# Altium footprint library PcbLib.PcbLib: 8 footprints
Each footprint in its own frame and in the unit in brackets; x right, y up, seen from the top. Pads: shape width x height; smd on the part's side, far side on the other; paste and mask are expansions set on the pad; w line width, h text height; cw(c..) or ccw(c..) is an arc to the next point about the centre after c.
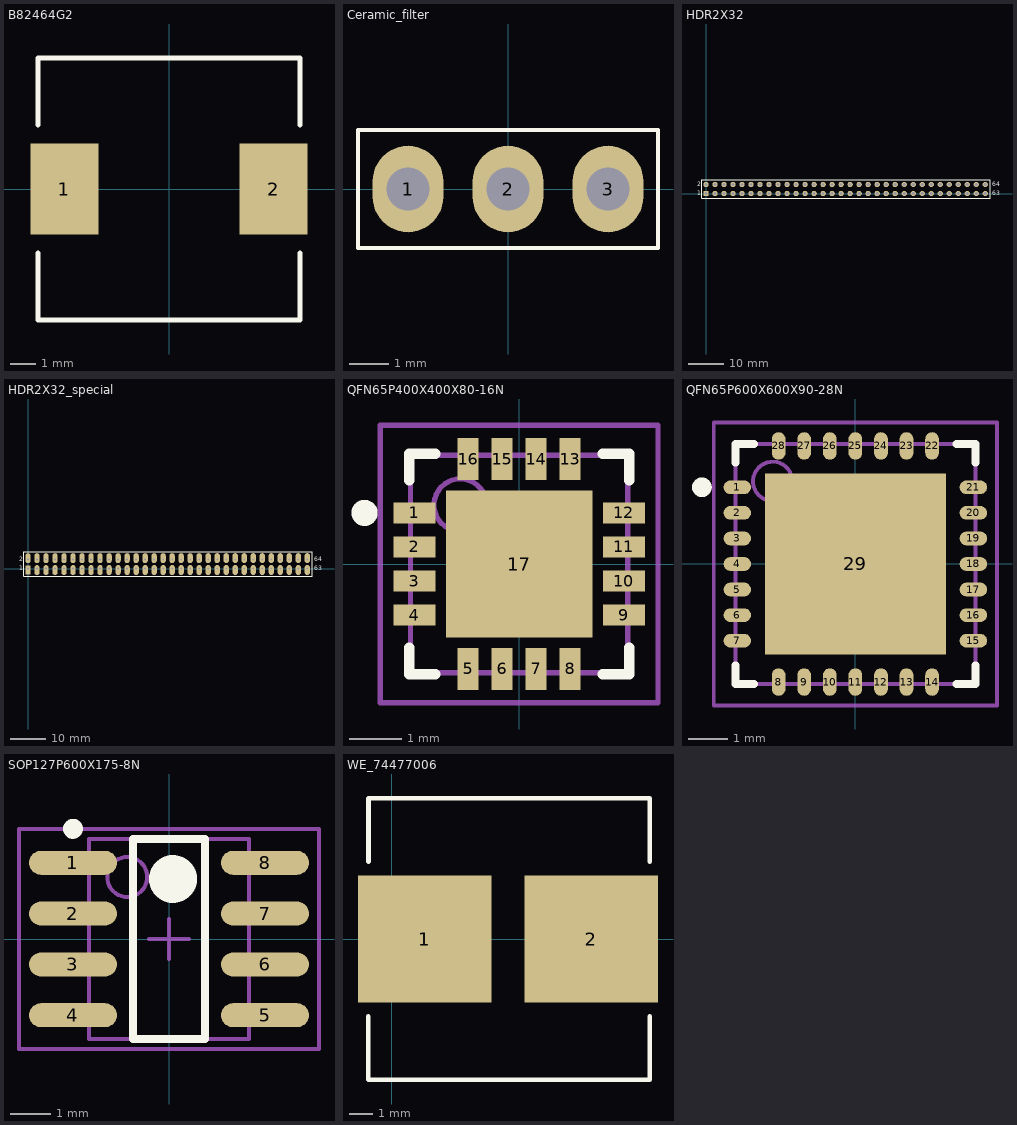
[diagram p0: the footprints below, top view; thin cyan lines are the x and y axes]

## B82464G2 [mm]
height 3
pads (2):
  rect 2.7x3.6 smd: 1(-4.15,0) 2(4.15,0)
Top Overlay:
  lines w0.2: -5.2,-2.547 -5.2,-5.2 5.2,-5.2 5.2,-2.547 ; -5.2,2.547 -5.2,5.2 5.2,5.2 5.2,2.547
3D body: height 4.8, standoff 0, extent -5.2,-5.327 5.2,5.073

## Ceramic_filter [mm]
pads (3):
  oval 1.8x2.2 hole 1.1: 1(-2.54,0) 2(0,0) 3(2.54,0)
Top Overlay:
  lines w0.1: -3.81,-1.5 -3.81,1.5 3.81,1.5 3.81,-1.5 -3.81,-1.5

## HDR2X32 [mm]
pads (64):
  rect 1.5x1.5 hole 0.9: 1(0,0)
  round 1.5 hole 0.9: 2(0,2.54) 3(2.54,0) 4(2.54,2.54) 5(5.08,0) 6(5.08,2.54) 7(7.62,0) 8(7.62,2.54) 9(10.16,0) 10(10.16,2.54) 11(12.7,0) 12(12.7,2.54) 13(15.24,0) 14(15.24,2.54) 15(17.78,0) 16(17.78,2.54) 17(20.32,0) 18(20.32,2.54) 19(22.86,0) 20(22.86,2.54) 21(25.4,0) 22(25.4,2.54) 23(27.94,0) 24(27.94,2.54) 25(30.48,0) 26(30.48,2.54) 27(33.02,0) 28(33.02,2.54) 29(35.56,0) 30(35.56,2.54) 31(38.1,0) 32(38.1,2.54) 33(40.64,0) 34(40.64,2.54) 35(43.18,0) 36(43.18,2.54) 37(45.72,0) 38(45.72,2.54) 39(48.26,0) 40(48.26,2.54) 41(50.8,0) 42(50.8,2.54) 43(53.34,0) 44(53.34,2.54) 45(55.88,0) 46(55.88,2.54) 47(58.42,0) 48(58.42,2.54) 49(60.96,0) 50(60.96,2.54) 51(63.5,0) 52(63.5,2.54) 53(66.04,0) 54(66.04,2.54) 55(68.58,0) 56(68.58,2.54) 57(71.12,0) 58(71.12,2.54) 59(73.66,0) 60(73.66,2.54) 61(76.2,0) 62(76.2,2.54) 63(78.74,0) 64(78.74,2.54)
Top Overlay:
  lines w0.2: -1.27,-1.27 80.14,-1.27 80.14,0 80.14,2.54 80.14,3.81 -1.27,3.81 -1.27,-1.27
  text "64" at 80.772,2.032 h1.27
  text "63" at 80.772,-0.508 h1.27
  text "1" at -2.54,-0.508 h1.27
  text "2" at -2.54,2.032 h1.27

## HDR2X32_special [mm]
height 2
pads (64):
  rect 1.5x2.5 hole 0.5 copper offset 0,-0.4: 1(0,0)
  oval 1.5x2.8 hole 0.5 copper offset 0,0.4: 2(0,2.54) 4(2.54,2.54) 6(5.08,2.54) 8(7.62,2.54) 10(10.16,2.54) 12(12.7,2.54) 14(15.24,2.54) 16(17.78,2.54) 18(20.32,2.54) 20(22.86,2.54) 22(25.4,2.54) 24(27.94,2.54) 26(30.48,2.54) 28(33.02,2.54) 30(35.56,2.54) 32(38.1,2.54) 34(40.64,2.54) 36(43.18,2.54) 38(45.72,2.54) 40(48.26,2.54) 42(50.8,2.54) 44(53.34,2.54) 46(55.88,2.54) 48(58.42,2.54) 50(60.96,2.54) 52(63.5,2.54) 54(66.04,2.54) 56(68.58,2.54) 58(71.12,2.54) 60(73.66,2.54) 62(76.2,2.54) 64(78.74,2.54)
  oval 1.5x2.8 hole 0.5 copper offset 0,-0.4: 3(2.54,0) 5(5.08,0) 7(7.62,0) 9(10.16,0) 11(12.7,0) 13(15.24,0) 15(17.78,0) 17(20.32,0) 19(22.86,0) 21(25.4,0) 23(27.94,0) 25(30.48,0) 27(33.02,0) 29(35.56,0) 31(38.1,0) 33(40.64,0) 35(43.18,0) 37(45.72,0) 39(48.26,0) 41(50.8,0) 43(53.34,0) 45(55.88,0) 47(58.42,0) 49(60.96,0) 51(63.5,0) 53(66.04,0) 55(68.58,0) 57(71.12,0) 59(73.66,0) 61(76.2,0) 63(78.74,0)
Top Overlay:
  lines w0.2: -1.27,-2.1 80.14,-2.1 80.14,4.7 -1.27,4.7 -1.27,-2.1
  text "64" at 80.772,2.032 h1.27
  text "63" at 80.772,-0.508 h1.27
  text "1" at -2.54,-0.508 h1.27
  text "2" at -2.54,2.032 h1.27

## QFN65P400X400X80-16N [mm] "QFN, 16-Leads, Body 4,2x4,2mm (max), Pitch 0,65mm, IPC Medium Density"
height 0.8
pads (17):
  rect 0.8x0.4 smd: 1(-2,0.975) 2(-2,0.325) 3(-2,-0.325) 4(-2,-0.975) 9(2,-0.975) 10(2,-0.325) 11(2,0.325) 12(2,0.975)
  rect 0.4x0.8 smd: 5(-0.975,-2) 6(-0.325,-2) 7(0.325,-2) 8(0.975,-2) 13(0.975,2) 14(0.325,2) 15(-0.325,2) 16(-0.975,2)
  rect 2.8x2.8 smd: 17(0,0)
Top Overlay:
  circle w0.25: c-2.95,0.975 r0.125
  lines w0.2: -2.1,-1.6 -2.1,-2.1 -1.6,-2.1 ; -2.1,1.6 -2.1,2.1 -1.6,2.1 ; 1.6,-2.1 2.1,-2.1 2.1,-1.6 ; 1.6,2.1 2.1,2.1 2.1,1.6
Mechanical 13:
  circle w0.1: c-1.125,1.125 r0.5
  lines w0.1: -2.075,-2.075 -2.075,2.075 2.075,2.075 2.075,-2.075 -2.075,-2.075
Mechanical 15:
  lines w0.1: -0.5,0 0.5,0 ; 0,-0.5 0,0.5 ; -2.65,-2.65 -2.65,2.65 2.65,2.65 2.65,-2.65 -2.65,-2.65
3D body: height 0.8, standoff 0.08, extent -2.075,-2.075 2.075,2.075

## QFN65P600X600X90-28N [mm] "QFN, 28-Leads, Body 6,1x6,1mm (max), Pitch 0,65mm, IPC Medium Density"
height 0.9
pads (29):
  oval 0.7x0.35 smd: 1(-3,1.95) 2(-3,1.3) 3(-3,0.65) 4(-3,0) 5(-3,-0.65) 6(-3,-1.3) 7(-3,-1.95) 15(3,-1.95) 16(3,-1.3) 17(3,-0.65) 18(3,0) 19(3,0.65) 20(3,1.3) 21(3,1.95)
  oval 0.35x0.7 smd: 8(-1.95,-3) 9(-1.3,-3) 10(-0.65,-3) 11(0,-3) 12(0.65,-3) 13(1.3,-3) 14(1.95,-3) 22(1.95,3) 23(1.3,3) 24(0.65,3) 25(0,3) 26(-0.65,3) 27(-1.3,3) 28(-1.95,3)
  rect 4.6x4.6 smd: 29(0,0)
Top Overlay:
  circle w0.25: c-3.9,1.95 r0.125
  lines w0.2: -3.05,-2.575 -3.05,-3.05 -2.575,-3.05 ; -3.05,2.575 -3.05,3.05 -2.575,3.05 ; 2.575,-3.05 3.05,-3.05 3.05,-2.575 ; 2.575,3.05 3.05,3.05 3.05,2.575
Mechanical 13:
  circle w0.1: c-2.1,2.1 r0.5
  lines w0.1: -3.05,-3.05 3.05,-3.05 3.05,3.05 -3.05,3.05 -3.05,-3.05
Mechanical 15:
  lines w0.1: -0.5,0 0.5,0 ; 0,-0.5 0,0.5 ; -3.6,-3.6 3.6,-3.6 3.6,3.6 -3.6,3.6 -3.6,-3.6
3D body: height 0.9, standoff 0.01, extent -3.05,-3.05 3.05,3.05

## SOP127P600X175-8N [mm] "SOP, 8-Leads, Body 5,0x4,0mm (max), Pitch 1,27mm, IPC Medium Density"
height 1.753
pads (8):
  oval 2.2x0.6 smd: 1(-2.4,1.905) 2(-2.4,0.635) 3(-2.4,-0.635) 4(-2.4,-1.905) 5(2.4,-1.905) 6(2.4,-0.635) 7(2.4,0.635) 8(2.4,1.905)
Top Overlay:
  circle w0.6: c0.1,1.5 r0.3
  circle w0.25: c-2.4,2.755 r0.125
  lines w0.2: -0.9,-2.5 0.9,-2.5 0.9,2.5 -0.9,2.5 -0.9,-2.5
Mechanical 13:
  circle w0.1: c-1.045,1.55 r0.5
  lines w0.1: -1.995,-2.5 1.995,-2.5 1.995,2.5 -1.995,2.5 -1.995,-2.5
Mechanical 15:
  lines w0.1: -0.5,0 0.5,0 ; 0,-0.5 0,0.5 ; -3.75,-2.75 3.75,-2.75 3.75,2.75 -3.75,2.75 -3.75,-2.75
3D body: height 1.75, standoff 0.25, extent -1.995,-2.5 1.995,2.5

## WE_74477006 [mm]
pads (2):
  rect 5.7x5.4 smd: 1(1.4,0) 2(8.5,0)
Top Overlay:
  lines w0.2: -1.016,-5.962 -1.016,-3.302 ; -1,-6 11,-6 11,-3.302 ; -1,3.302 -1,6 11,6 11,3.302